# Altium footprint library SIP5.PcbLib: 1 footprints
Each footprint in its own frame and in the unit in brackets; x right, y up, seen from the top. Pads: shape width x height; smd on the part's side, far side on the other; paste and mask are expansions set on the pad; w line width, h text height; cw(c..) or ccw(c..) is an arc to the next point about the centre after c.
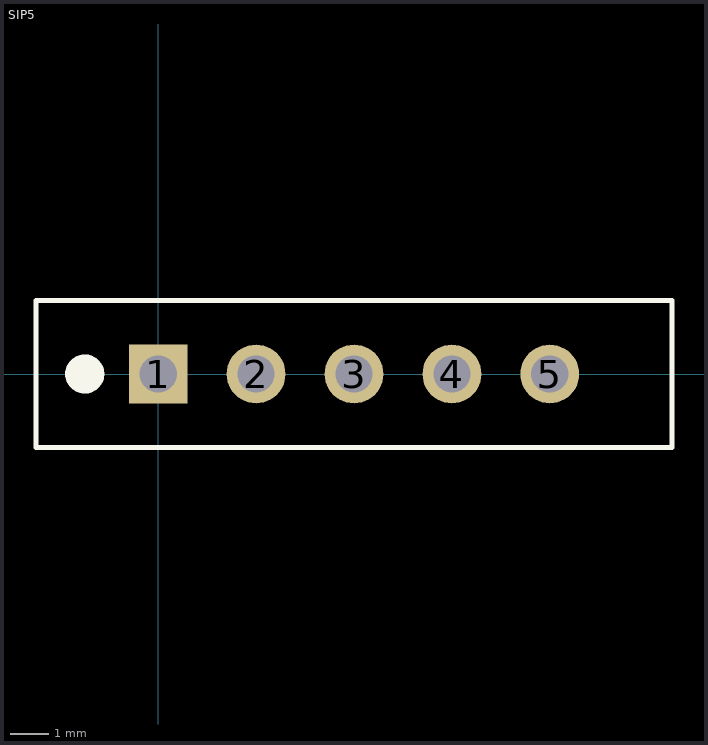
[diagram p0: the footprint, top view; thin cyan lines are the x and y axes]

## SIP5 [mil]
pads (5):
  rect 60x60 hole 38: 1(0,0)
  round 60 hole 38: 2(100,0) 3(200,0) 4(300,0) 5(400,0)
Top Overlay:
  circle w20: c-75,0 r10
  lines w5: -125,-75 525,-75 525,75 -125,75 -125,-75
3D body "SIP4.step": height 330, standoff -100, extent 50,-50 450,50
3D body "SIP4.step": height 330, standoff -100, extent -50,-50 350,50